# EAGLE library part 74LVC1G3157GV (library hotmetal)
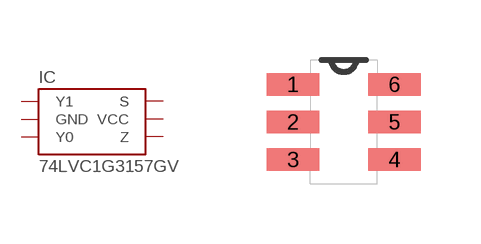
[diagram p0: symbol with the pads of SOT457; footprint SOT457]

Designator prefix IC

## 74LVC1G3157GV  [SOT457]
1  Y1
2  GND  pwr
3  Y0
4  Z
5  VCC  pwr
6  S

## Footprint SOT457 (pad centres in mm)
smd 1.321 x 0.559: 1 -1.27,0.94; 2 -1.27,0; 3 -1.27,-0.94; 4 1.27,-0.94; 5 1.27,0; 6 1.27,0.94